# Altium schematic symbol library ITR-8102.Schlib: 1 symbol
Pins are listed as number, name and electrical type; pins without a type are passive.

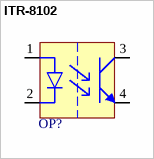
[diagram p0: symbol ITR-8102]

## ITR-8102
designator OP?  (value not drawn)
footprint ITR-8102 (IR Opto-coupler)
pins: 1, 2, 3, 4